# Altium footprint library WE-SMGS.PcbLib: 8 footprints
Each footprint in its own frame and in the unit in brackets; x right, y up, seen from the top. Pads: shape width x height; smd on the part's side, far side on the other; paste and mask are expansions set on the pad; w line width, h text height; cw(c..) or ccw(c..) is an arc to the next point about the centre after c.
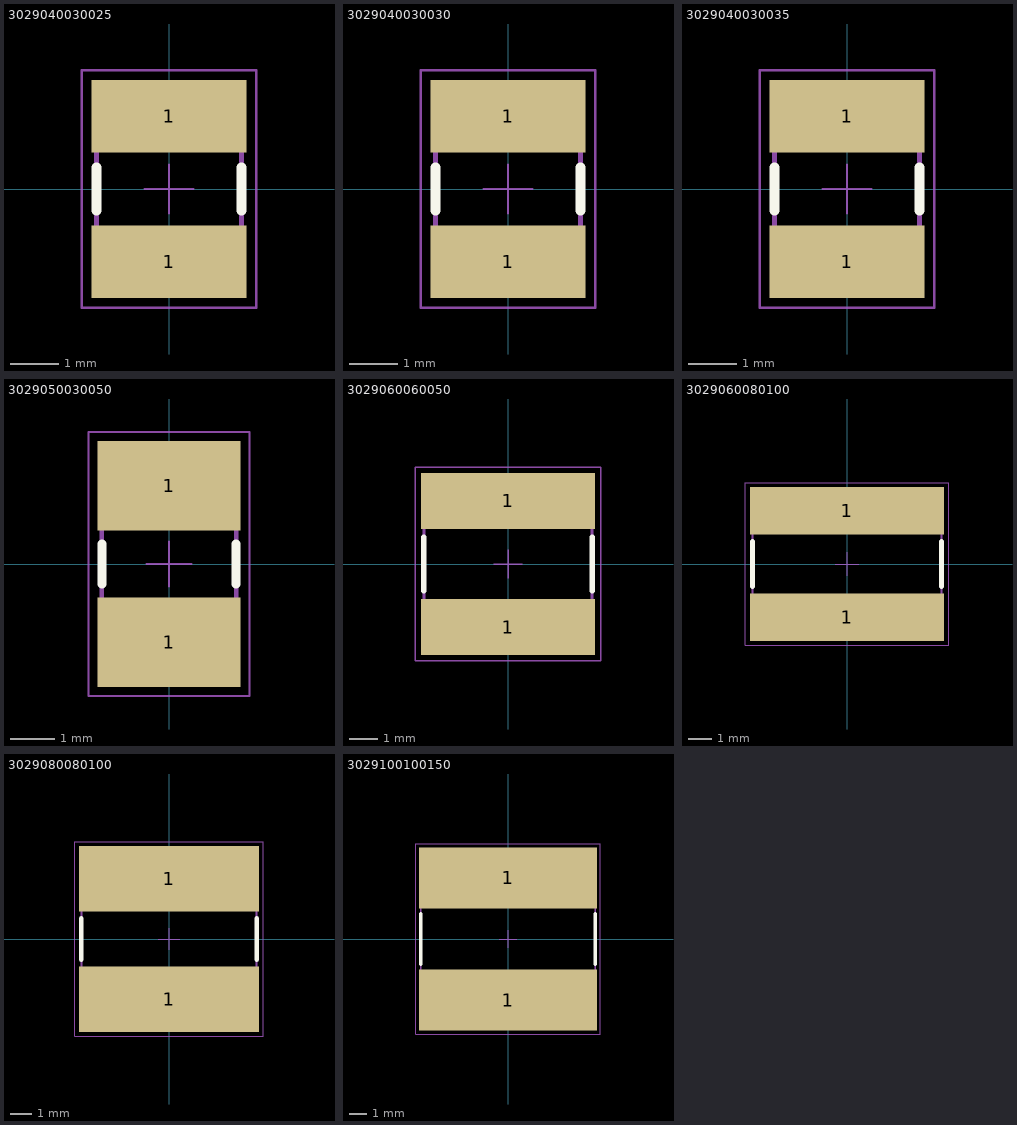
[diagram p0: the footprints below, top view; thin cyan lines are the x and y axes]

## 3029040030025 [mm] "Surface Mount Solderable Gasket, size 3x4mm"
height 2.5
pads (2):
  rect 3.2x1.5 smd: 1(0,-1.5) 1(0,1.5)
Top Overlay:
  lines w0.2: -1.5,-0.45 -1.5,0.45 ; 1.5,-0.45 1.5,0.45
Top Designator:
  text ".Designator" at -4.998,-0.333 h1
Top Component Outline:
  lines w0.1: -1.5,-2 1.5,-2 1.5,2 -1.5,2 -1.5,-2
Top Courtyard:
  lines w0.05: -0.5,0 0.5,0 ; 0,-0.5 0,0.5 ; -1.8,-2.45 -1.8,2.45 1.8,2.45 1.8,-2.45 -1.8,-2.45
3D body "3029040030025.stp": height 2.5, standoff 0, extent -1.5,-2 1.5,2

## 3029040030030 [mm] "Surface Mount Solderable Gasket, size 3x4mm"
height 3
pads (2):
  rect 3.2x1.5 smd: 1(0,-1.5) 1(0,1.5)
Top Overlay:
  lines w0.2: -1.5,-0.45 -1.5,0.45 ; 1.5,-0.45 1.5,0.45
Top Designator:
  text ".Designator" at -4.998,-0.333 h1
Top Component Outline:
  lines w0.1: -1.5,-2 -1.5,2 1.5,2 1.5,-2 -1.5,-2
Top Courtyard:
  lines w0.05: -0.5,0 0.5,0 ; 0,-0.5 0,0.5 ; -1.8,-2.45 -1.8,2.45 1.8,2.45 1.8,-2.45 -1.8,-2.45
3D body "3029040030030.stp": height 3, standoff 0, extent -1.5,-2 1.5,2

## 3029040030035 [mm] "Surface Mount Solderable Gasket, size 3x4mm"
height 3.5
pads (2):
  rect 3.2x1.5 smd: 1(0,-1.5) 1(0,1.5)
Top Overlay:
  lines w0.2: -1.5,-0.45 -1.5,0.45 ; 1.5,-0.45 1.5,0.45
Top Designator:
  text ".Designator" at -4.998,-0.333 h1
Top Component Outline:
  lines w0.1: -1.5,-2 -1.5,2 1.5,2 1.5,-2 -1.5,-2
Top Courtyard:
  lines w0.05: -0.5,0 0.5,0 ; 0,-0.5 0,0.5 ; -1.8,-2.45 -1.8,2.45 1.8,2.45 1.8,-2.45 -1.8,-2.45
3D body "3029040030035.stp": height 3.5, standoff 0, extent -1.5,-2 1.5,2

## 3029050030050 [mm] "Surface Mount Solderable Gasket, size 3x5mm"
height 5
pads (2):
  rect 3.2x2 smd: 1(0,-1.75) 1(0,1.75)
Top Overlay:
  lines w0.2: -1.5,-0.45 -1.5,0.45 ; 1.5,-0.45 1.5,0.45
Top Designator:
  text ".Designator" at -4.998,-0.333 h1
Top Component Outline:
  lines w0.1: -1.5,-2.5 1.5,-2.5 1.5,2.5 -1.5,2.5 -1.5,-2.5
Top Courtyard:
  lines w0.05: -0.5,0 0.5,0 ; 0,-0.5 0,0.5 ; -1.8,-2.95 1.8,-2.95 1.8,2.95 -1.8,2.95 -1.8,-2.95
3D body "3029050030050.stp": height 5, standoff 0, extent -1.5,-2.5 1.5,2.5

## 3029060060050 [mm] "Surface Mount Solderable Gasket, size 6x6mm"
height 5
pads (2):
  rect 6.2x2 smd: 1(0,-2.25) 1(0,2.25)
Top Overlay:
  lines w0.2: -3,-0.95 -3,0.95 ; 3,-0.95 3,0.95
Top Designator:
  text ".Designator" at -7.498,-0.5 h1.5
Top Component Outline:
  lines w0.1: -3,-3 3,-3 3,3 -3,3 -3,-3
Top Courtyard:
  lines w0.05: -0.5,0 0.5,0 ; 0,-0.5 0,0.5 ; -3.3,-3.45 3.3,-3.45 3.3,3.45 -3.3,3.45 -3.3,-3.45
3D body "3029060060050.stp": height 5, standoff 0, extent -3,-3 3,3

## 3029060080100 [mm] "Surface Mount Solderable Gasket, size 8x6mm"
height 10
pads (2):
  rect 8.2x2 smd: 1(0,-2.25) 1(0,2.25)
Top Overlay:
  lines w0.2: -4,-0.95 -4,0.95 ; 4,-0.95 4,0.95
Top Designator:
  text ".Designator" at -7.498,-0.5 h1.5
Top Component Outline:
  lines w0.1: -4,-3 -4,3 4,3 4,-3 -4,-3
Top Courtyard:
  lines w0.05: -0.5,0 0.5,0 ; 0,-0.5 0,0.5 ; -4.3,-3.45 -4.3,3.45 4.3,3.45 4.3,-3.45 -4.3,-3.45
3D body "3029060080100.stp": height 10, standoff 0, extent -4,-3 4,3

## 3029080080100 [mm] "Surface Mount Solderable Gasket, size 8x8mm"
height 10
pads (2):
  rect 8.2x3 smd: 1(0,-2.75) 1(0,2.75)
Top Overlay:
  lines w0.2: -4,-0.95 -4,0.95 ; 4,-0.95 4,0.95
Top Designator:
  text ".Designator" at -7.498,-0.5 h1.5
Top Component Outline:
  lines w0.1: -4,-4 -4,4 4,4 4,-4 -4,-4
Top Courtyard:
  lines w0.05: -0.5,0 0.5,0 ; 0,-0.5 0,0.5 ; -4.3,-4.45 -4.3,4.45 4.3,4.45 4.3,-4.45 -4.3,-4.45
3D body "3029080080100.stp": height 10, standoff 0, extent -4,-4 4,4

## 3029100100150 [mm] "Surface Mount Solderable Gasket, size 10x10mm"
height 15
pads (2):
  rect 10.2x3.5 smd: 1(0,-3.5) 1(0,3.5)
Top Overlay:
  lines w0.2: -5,-1.45 -5,1.45 ; 5,-1.45 5,1.45
Top Designator:
  text ".Designator" at -7.498,-0.5 h1.5
Top Component Outline:
  lines w0.1: -5,-5 -5,5 5,5 5,-5 -5,-5
Top Courtyard:
  lines w0.05: -0.5,0 0.5,0 ; 0,-0.5 0,0.5 ; -5.3,-5.45 -5.3,5.45 5.3,5.45 5.3,-5.45 -5.3,-5.45
3D body "3029100100150.stp": height 15, standoff 0, extent -5,-5 5,5